# EAGLE library part LM2676 (library power)
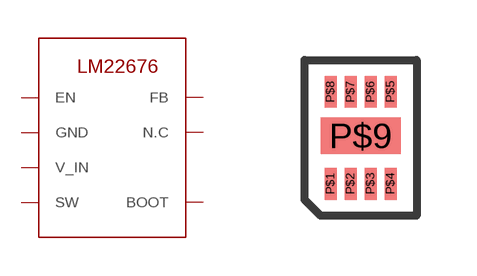
[diagram p8: symbol with the pads of WSON8; footprint WSON8]

Designator prefix U

## LM2676  [WSON8]
P$1  N.C  nc
P$2  SW
P$3  V_IN
P$5  BOOT
P$6  EN
P$7  FB
P$8  GND

## Footprint WSON8 (pad centres in mm)
smd 0.3 x 0.8: P$1 -0.75,-1.2; P$2 -0.25,-1.2; P$3 0.25,-1.2; P$4 0.75,-1.2; P$5 0.75,1.1; P$6 0.25,1.1; P$7 -0.25,1.1; P$8 -0.75,1.1
smd 2 x 0.9: P$9 0,0